# EAGLE library part 3-1761603-0 (library 3-1761603-0)
IDC LOW PRO HDR 50P VERT BLACK Check availability <https://pricing.snapeda.com/parts/3-1761603-0/TE%20Connectivity/view-part?ref=eda>
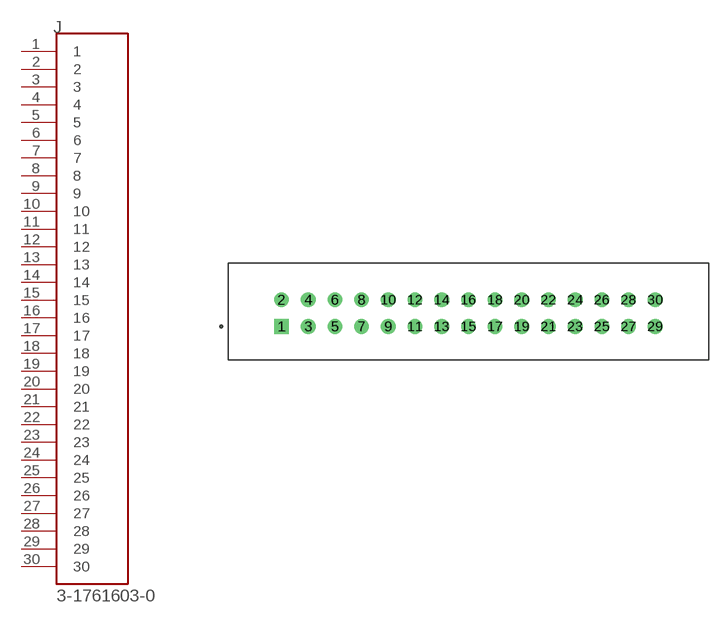
[diagram p0: symbol with the pads of TE_3-1761603-0; footprint TE_3-1761603-0]

Designator prefix J

## 3-1761603-0 (Availability: In Stock; Centerline_Pitch: 2.54 mm[.1 in]; Comment: 3-1761603-0; Description: IDC LOW PRO HDR 30P VERT BLUE; EU_RoHS_Compliance: Compliant; MF: TE Connectivity; MP: 3-1761603-0; Number_of_Positions: 30; Package: None; Price: None; Product_Type: Connector; Purchase-URL: https://pricing.snapeda.com/search?q=3-1761603-0&ref=eda)  [TE_3-1761603-0]
1  1  pas
2  2  pas
3  3  pas
4  4  pas
5  5  pas
6  6  pas
7  7  pas
8  8  pas
9  9  pas
10  10  pas
11  11  pas
12  12  pas
13  13  pas
14  14  pas
15  15  pas
16  16  pas
17  17  pas
18  18  pas
19  19  pas
20  20  pas
21  21  pas
22  22  pas
23  23  pas
24  24  pas
25  25  pas
26  26  pas
27  27  pas
28  28  pas
29  29  pas
30  30  pas

## Footprint TE_3-1761603-0 (pad centres in mm)
drill 0.89 pad 1.24 square: 1 0,0
drill 0.89 pad 1.24: 2 0,2.54; 3 2.54,0; 4 2.54,2.54; 5 5.08,0; 6 5.08,2.54; 7 7.62,0; 8 7.62,2.54; 9 10.16,0; 10 10.16,2.54; 11 12.7,0; 12 12.7,2.54; 13 15.24,0; 14 15.24,2.54; 15 17.78,0; 16 17.78,2.54; 17 20.32,0; 18 20.32,2.54; 19 22.86,0; 20 22.86,2.54; 21 25.4,0; 22 25.4,2.54; 23 27.94,0; 24 27.94,2.54; 25 30.48,0; 26 30.48,2.54; 27 33.02,0; 28 33.02,2.54; 29 35.56,0; 30 35.56,2.54